# EAGLE library part 4VFX40FF672 (library xilinx_spartan3_virtex4_and_5)
Xilinx FPGA
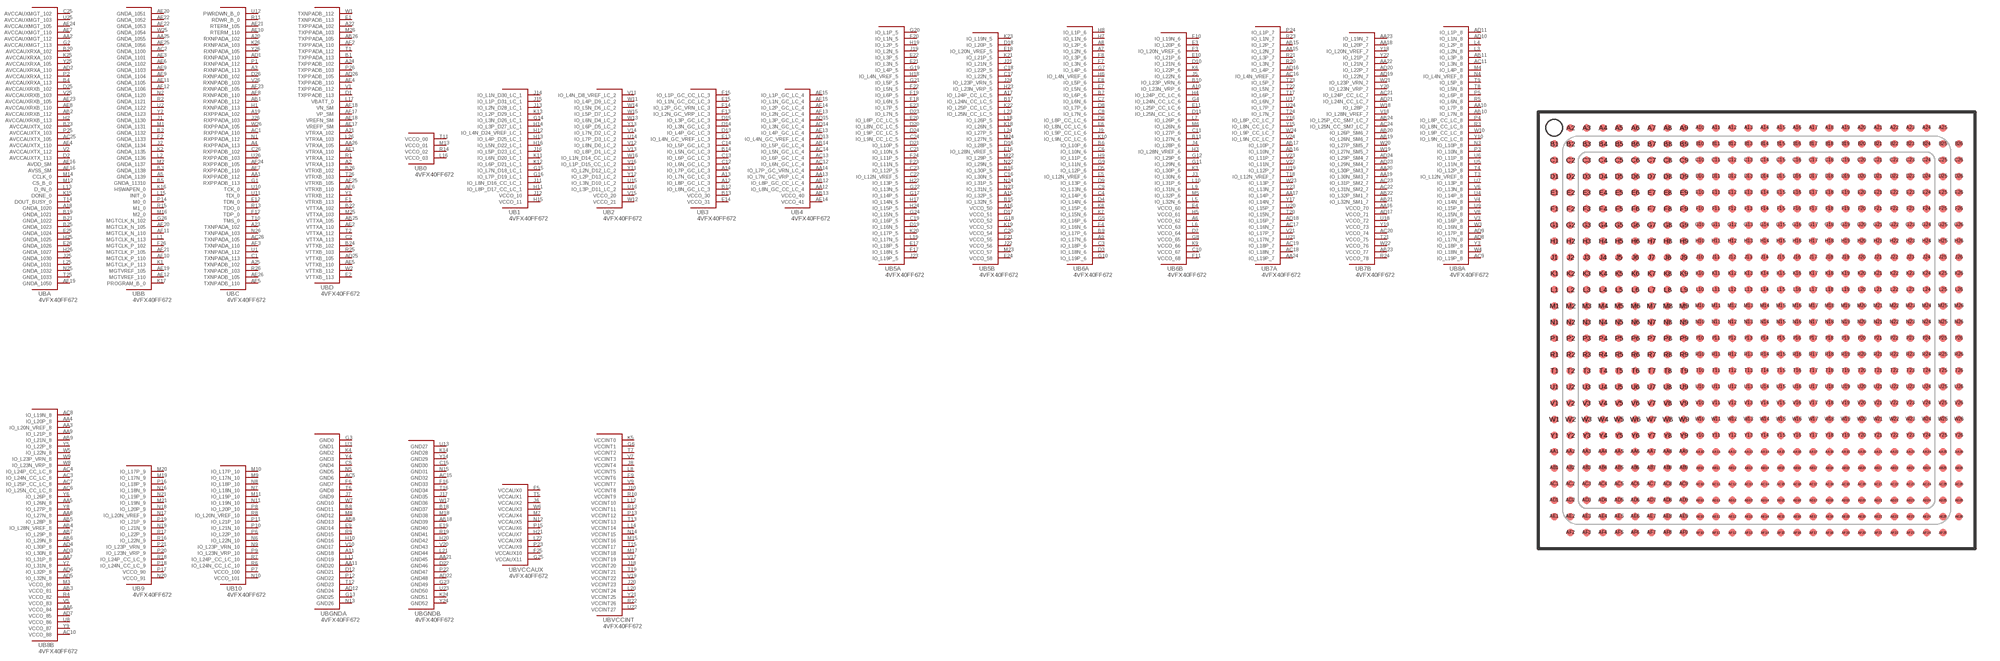
[diagram p64: symbol with the pads of FF672; footprint FF672]

Designator prefix U; gates BA=4VFX40FF672_A BB=4VFX40FF672_B BC=4VFX40FF672_C BD=4VFX40FF672_D B0=4VFX40FF672_0 B1=4VFX40FF672_1 B2=4VFX40FF672_2 B3=4VFX40FF672_3 B4=4VFX40FF672_4 B5A=4VFX40FF672_5A B5B=4VFX40FF672_5B B6A=4VFX40FF672_6A B6B=4VFX40FF672_6B B7A=4VFX40FF672_7A B7B=4VFX40FF672_7B B8A=4VFX40FF672_8A B8B=4VFX40FF672_8B B9=4VFX40FF672_9 B10=4VFX40FF672_10 BGNDA=4VFX40FF672_GNDA BGNDB=4VFX40FF672_GNDB BVCCAUX=4VFX40FF672_VCCAUX BVCCINT=4VFX40FF672_VCCINT

## 4VFX40FF672  [FF672]
A2  BD:VTRXA_113
A3  BC:RXNPADA_113
A4  BC:RXPPADA_113
A5  BB:GNDA_1139
A6  B6B:VCCO_62  pas
A7  B6A:IO_L2N_6
A8  B6A:IO_L2P_6
A9  B6A:IO_L17N_6
A10  B6B:IO_L23N_VRP_6
A11  BGNDA:GND18  pas
A12  B3:IO_L8P_GC_LC_3
A13  B3:IO_L7N_GC_LC_3
A14  B3:IO_L7P_GC_LC_3
A15  B5B:IO_L32P_5
A16  B5B:VCCO_50  pas
A17  B5B:IO_L24P_CC_LC_5
A18  BA:GNDA_1020
A19  BC:RXPPADA_102
A20  BC:RXNPADA_102
A21  BD:VTRXA_102
A22  BD:TXPPADA_102
A23  BC:TXNPADA_102
A24  BD:TXPPADB_102
A25  BC:TXNPADB_102
AA1  BC:RXPPADB_112
AA2  BA:AVCCAUXMGT_112
AA3  B8B:IO_L20N_VREF_8
AA4  B8B:IO_L20P_8
AA5  B8B:IO_L26N_8
AA6  B8B:VCCO_84  pas
AA7  B8B:IO_L31P_8
AA8  B8B:IO_L27N_8
AA9  B8B:IO_L21P_8
AA10  B8A:IO_L7P_8
AA11  BGNDA:GND20  pas
AA12  B4:IO_L8N_GC_CC_LC_4
AA13  B4:IO_L7N_GC_VRP_LC_4
AA14  B4:IO_L7P_GC_VRN_LC_4
AA15  B7A:IO_L2N_7
AA16  B7B:VCCO_70  pas
AA17  B7A:IO_L14P_7
AA18  B7B:IO_L20P_7
AA19  B7B:IO_L30N_SM3_7
AA20  B7B:IO_L30P_SM3_7
AA21  BGNDB:GND45  pas
AA22  B7B:IO_L21N_7
AA23  B7B:IO_L19N_7
AA24  B7A:IO_L19P_7
AA25  BB:GNDA_1055
AA26  BD:VTRXA_105
AB1  BC:RXNPADB_112
AB2  BA:AVCCAUXRXB_112
AB3  B8B:VCCO_81  pas
AB4  B8B:IO_L28N_VREF_8
AB5  B8B:IO_L28P_8
AB6  B8B:IO_L29N_8
AB7  B8B:IO_L29P_8
AB8  BGNDA:GND13  pas
AB9  B8B:IO_L21N_8
AB10  B8A:IO_L7N_8
AB11  B8A:IO_L3P_8
AB12  B4:IO_L8P_GC_CC_LC_4
AB13  B4:VCCO_40  pas
AB14  B4:IO_L5P_GC_LC_4
AB15  B7A:IO_L2P_7
AB16  B7A:IO_L10N_7
AB17  B7A:IO_L10P_7
AB18  BGNDB:GND39  pas
AB19  B7B:IO_L26N_SM6_7
AB20  B7B:IO_L26P_SM6_7
AB21  B7B:IO_L32N_SM1_7
AB22  B7B:IO_L32P_SM1_7
AB23  B7B:VCCO_77  pas
AB24  B7B:IO_L25P_CC_SM7_LC_7
AB25  BD:VTTXA_105
AB26  BD:TXPPADA_105
AC1  BC:RXPPADA_110
AC2  BB:GNDA_1100
AC3  B8B:IO_L24N_CC_LC_8
AC4  B8B:IO_L24P_CC_LC_8
AC5  BGNDA:GND6  pas
AC6  B8B:IO_L25N_CC_LC_8
AC7  B8B:IO_L25P_CC_LC_8
AC8  B8B:IO_L19N_8
AC9  B8A:IO_L19P_8
AC10  B8B:VCCO_88  pas
AC11  B8A:IO_L3N_8
AC12  B4:IO_L6N_GC_LC_4
AC13  B4:IO_L6P_GC_LC_4
AC14  B4:IO_L5N_GC_LC_4
AC15  BGNDB:GND32  pas
AC16  B7A:IO_L4N_VREF_7
AC17  B7A:IO_L16N_7
AC18  B7A:IO_L18N_7
AC19  B7A:IO_L18P_7
AC20  B7B:VCCO_74  pas
AC21  B7B:IO_L24P_CC_LC_7
AC22  B7B:IO_L31N_SM2_7
AC23  B7B:IO_L31P_SM2_7
AC24  B7B:IO_L25N_CC_SM7_LC_7
AC25  BA:AVCCAUXTX_105
AC26  BC:TXNPADA_105
AD1  BC:RXNPADA_110
AD2  BA:AVCCAUXRXA_110
AD3  B8B:IO_L30N_8
AD4  B8B:IO_L30P_8
AD5  B8B:IO_L32N_8
AD6  B8B:IO_L32P_8
AD7  B8B:VCCO_85  pas
AD8  B8A:IO_L17N_8
AD9  B8A:IO_L17P_8
AD10  B8A:IO_L1N_8
AD11  B8A:IO_L1P_8
AD12  BGNDA:GND24  pas
AD13  B4:IO_L4N_GC_VREF_LC_4
AD14  B4:IO_L3N_GC_LC_4
AD15  B4:IO_L3P_GC_LC_4
AD16  B7A:IO_L4P_7
AD17  B7B:VCCO_71  pas
AD18  B7A:IO_L16P_7
AD19  B7B:IO_L22N_7
AD20  B7B:IO_L22P_7
AD21  B7B:IO_L24N_CC_LC_7
AD22  BGNDB:GND48  pas
AD23  B7B:IO_L29N_SM4_7
AD24  B7B:IO_L29P_SM4_7
AD25  BD:VTTXB_105
AD26  BD:TXPPADB_105
AE1  BD:VTRXA_110
AE2  BD:VTTXA_110
AE3  BB:GNDA_1101
AE4  BA:AVCCAUXTX_110
AE5  BD:VTTXB_110
AE6  BB:GNDA_1102
AE7  BA:AVCCAUXMGT_110
AE8  BA:AVCCAUXRXB_110
AE9  BB:GNDA_1103
AE10  BC:RTERM_110
AE11  BB:GNDA_1105
AE12  BB:MGTVREF_110
AE13  B4:IO_L4P_GC_LC_4
AE14  B4:VCCO_41  pas
AE15  B4:IO_L1P_GC_LC_4
AE16  BA:AVDD_SM
AE17  BD:VREFP_SM
AE18  BD:VREFN_SM
AE19  BB:MGTVREF_105
AE20  BB:GNDA_1051
AE21  BC:RTERM_105
AE22  BB:GNDA_1052
AE23  BA:AVCCAUXRXB_105
AE24  BA:AVCCAUXMGT_105
AE25  BB:GNDA_1056
AE26  BC:TXNPADB_105
AF2  BD:TXPPADA_110
AF3  BC:TXNPADA_110
AF4  BD:TXPPADB_110
AF5  BC:TXNPADB_110
AF6  BD:VTRXB_110
AF7  BC:RXPPADB_110
AF8  BC:RXNPADB_110
AF9  BB:GNDA_1104
AF10  BB:MGTCLK_P_110
AF11  BB:MGTCLK_N_110
AF12  BB:GNDA_1106
AF13  B4:IO_L2N_GC_LC_4
AF14  B4:IO_L2P_GC_LC_4
AF15  B4:IO_L1N_GC_LC_4
AF16  BA:AVSS_SM
AF17  BD:VP_SM
AF18  BD:VN_SM
AF19  BA:GNDA_1050
AF20  BB:MGTCLK_N_105
AF21  BB:MGTCLK_P_105
AF22  BB:GNDA_1053
AF23  BC:RXNPADB_105
AF24  BC:RXPPADB_105
AF25  BD:VTRXB_105
B1  BD:TXPPADA_113
B2  BB:GNDA_1132
B3  BB:GNDA_1138
B4  BA:AVCCAUXRXA_113
B5  BB:GNDA_11310
B6  B6A:IO_L10P_6
B7  B6A:IO_L6P_6
B8  BGNDA:GND11  pas
B9  B6A:IO_L17P_6
B10  B6B:IO_L23P_VRN_6
B11  B6B:IO_L27N_6
B12  B3:IO_L8N_GC_LC_3
B13  B3:VCCO_30  pas
B14  B3:IO_L5N_GC_LC_3
B15  B5B:IO_L32N_5
B16  B5B:IO_L30P_5
B17  B5B:IO_L24N_CC_LC_5
B18  BGNDB:GND37  pas
B19  BA:GNDA_1021
B20  BA:AVCCAUXRXA_102
B21  BA:GNDA_1022
B22  BD:VTTXA_102
B23  BA:AVCCAUXTX_102
B24  BD:VTTXB_102
B25  BA:GNDA_1023
B26  BD:VTRXB_102
C1  BC:TXNPADA_113
C2  BD:VTTXA_113
C3  B6A:IO_L18P_6
C4  B6A:IO_L14P_6
C5  BGNDA:GND4  pas
C6  B6A:IO_L10N_6
C7  B6A:IO_L6N_6
C8  B6A:IO_L7N_6
C9  B6A:IO_L13N_6
C10  B6B:VCCO_67  pas
C11  B6B:IO_L27P_6
C12  B3:IO_L6N_GC_LC_3
C13  B3:IO_L6P_GC_LC_3
C14  B3:IO_L5P_GC_LC_3
C15  BGNDB:GND30  pas
C16  B5B:IO_L30N_5
C17  B5B:IO_L22N_5
C18  B5B:IO_L22P_5
C19  B5A:IO_L16P_5
C20  B5B:VCCO_54  pas
C21  B5A:IO_L10N_5
C22  B5A:IO_L12N_VREF_5
C23  B5A:IO_L12P_5
C24  B5A:IO_L9N_CC_LC_5
C25  BA:AVCCAUXMGT_102
C26  BC:RXPPADB_102
D1  BD:TXPPADB_113
D2  BA:AVCCAUXTX_113
D3  B6A:IO_L18N_6
D4  B6A:IO_L14N_6
D5  B6A:IO_L12P_6
D6  B6A:IO_L8P_CC_LC_6
D7  B6B:VCCO_64  pas
D8  B6A:IO_L7P_6
D9  B6A:IO_L13P_6
D10  B6B:IO_L21N_6
D11  B6B:IO_L25N_CC_LC_6
D12  BGNDA:GND21  pas
D13  B3:IO_L4P_GC_LC_3
D14  B3:IO_L3N_GC_LC_3
D15  B3:IO_L3P_GC_LC_3
D16  B5B:IO_L28P_5
D17  B5B:VCCO_51  pas
D18  B5B:IO_L20P_5
D19  B5A:IO_L16N_5
D20  B5A:IO_L8N_CC_LC_5
D21  B5A:IO_L10P_5
D22  BGNDB:GND46  pas
D23  B5A:IO_L7N_5
D24  B5A:IO_L9P_CC_LC_5
D25  BA:AVCCAUXRXB_102
D26  BC:RXNPADB_102
E1  BD:TXNPADB_113
E2  BD:VTTXB_113
E3  B6B:IO_L20P_6
E4  B6B:VCCO_60  pas
E5  B6A:IO_L12N_VREF_6
E6  B6A:IO_L8N_CC_LC_6
E7  B6A:IO_L5N_6
E8  B6A:IO_L5P_6
E9  BGNDA:GND14  pas
E10  B6B:IO_L21P_6
E11  B6B:IO_L25P_CC_LC_6
E12  BC:TDN_0
E13  B3:IO_L4N_GC_VREF_LC_3
E14  B3:VCCO_31  pas
E15  B3:IO_L1N_GC_CC_LC_3
E16  B5B:IO_L28N_VREF_5
E17  B5A:IO_L18P_5
E18  B5B:IO_L20N_VREF_5
E19  BGNDB:GND40  pas
E20  B5A:IO_L8P_CC_LC_5
E21  B5A:IO_L3N_5
E22  B5A:IO_L3P_5
E23  B5A:IO_L7P_5
E24  B5B:VCCO_58  pas
E25  BA:GNDA_1024
E26  BA:GNDA_1026
F1  BD:VTRXB_113
F2  BB:GNDA_1133
F3  B6B:IO_L20N_VREF_6
F4  B6A:IO_L16N_6
F5  BVCCAUX:VCCAUX0  pas
F6  BGNDA:GND7  pas
F7  B6A:IO_L3N_6
F8  B6A:IO_L3P_6
F9  BVCCINT:VCCINT6  pas
F10  B6B:IO_L19N_6
F11  B6B:VCCO_68  pas
F12  BC:TDP_0
F13  B3:IO_L2N_GC_VRP_LC_3
F14  B3:IO_L2P_GC_VRN_LC_3
F15  B3:IO_L1P_GC_CC_LC_3
F16  BGNDB:GND33  pas
F17  B5A:IO_L18N_5
F18  B5A:IO_L6N_5
F19  B5A:IO_L6P_5
F20  B5A:IO_L1N_5
F21  B5B:VCCO_55  pas
F22  B5A:IO_L5N_5
F23  B5A:IO_L11N_5
F24  B5A:IO_L11P_5
F25  BVCCAUX:VCCAUX10  pas
F26  BB:MGTCLK_P_102
G1  BC:RXPPADB_113
G2  BA:AVCCAUXMGT_113
G3  BGNDA:GND0  pas
G4  B6B:IO_L24N_CC_LC_6
G5  B6A:IO_L16P_6
G6  BVCCINT:VCCINT1  pas
G7  B6A:IO_L4P_6
G8  B6B:VCCO_65  pas
G9  B6A:IO_L11N_6
G10  B6A:IO_L19P_6
G11  B6B:IO_L29N_6
G12  B6B:IO_L29P_6
G13  BGNDA:GND25  pas
G14  B1:IO_L3N_D26_LC_1
G15  B1:IO_L7N_D18_LC_1
G16  B1:IO_L7P_D19_LC_1
G17  B5A:IO_L14P_5
G18  B5B:VCCO_52  pas
G19  B5A:IO_L4P_5
G20  B5A:IO_L1P_5
G21  B5A:IO_L5P_5
G22  B5A:IO_L13N_5
G23  BGNDB:GND49  pas
G24  B5A:IO_L15N_5
G25  BVCCAUX:VCCAUX11  pas
G26  BB:MGTCLK_N_102
H1  BC:RXNPADB_113
H2  BA:AVCCAUXRXB_113
H3  B6B:IO_L28N_VREF_6
H4  B6B:IO_L24P_CC_LC_6
H5  B6B:VCCO_61  pas
H6  B6A:IO_L4N_VREF_6
H7  B6A:IO_L1N_6
H8  B6A:IO_L1P_6
H9  B6A:IO_L11P_6
H10  BGNDA:GND16  pas
H11  B1:IO_L8P_D17_CC_LC_1
H12  B1:IO_L4N_D24_VREF_LC_1
H13  B1:IO_L4P_D25_LC_1
H14  B1:IO_L3P_D27_LC_1
H15  B1:VCCO_11  pas
H16  B1:IO_L5N_D22_LC_1
H17  B5A:IO_L14N_5
H18  B5A:IO_L4N_VREF_5
H19  B5A:IO_L2P_5
H20  BGNDB:GND42  pas
H21  BVCCAUX:VCCAUX7  pas
H22  B5A:IO_L13P_5
H23  B5B:IO_L23N_VRP_5
H24  B5A:IO_L15P_5
H25  BA:GNDA_1025
H26  BA:GNDA_1027
J1  BB:GNDA_1130
J2  BB:GNDA_1134
J3  B6B:IO_L30N_6
J4  B6B:IO_L28P_6
J5  B6B:IO_L22N_6
J6  BVCCAUX:VCCAUX2  pas
J7  BGNDA:GND9  pas
J8  BVCCINT:VCCINT4  pas
J9  B6A:IO_L9P_CC_LC_6
J10  BVCCINT:VCCINT8  pas
J11  B1:IO_L8N_D16_CC_LC_1
J12  B1:VCCO_10  pas
J13  B1:IO_L2N_D28_LC_1
J14  B1:IO_L1N_D30_LC_1
J15  B1:IO_L1P_D31_LC_1
J16  B1:IO_L5P_D23_LC_1
J17  BGNDB:GND35  pas
J18  BVCCINT:VCCINT20  pas
J19  B5A:IO_L2N_5
J20  BVCCINT:VCCINT23  pas
J21  B5B:IO_L21N_5
J22  B5B:VCCO_56  pas
J23  B5A:IO_L19P_5
J24  B5B:IO_L23P_VRN_5
J25  BA:GNDA_1030
J26  BC:RXPPADA_103
K1  BB:MGTCLK_P_113
K2  BB:GNDA_1135
K3  B6B:IO_L30P_6
K4  BGNDA:GND2  pas
K5  BVCCINT:VCCINT0  pas
K6  B6B:IO_L22P_6
K7  B6A:IO_L15N_6
K8  B6A:IO_L15P_6
K9  B6B:VCCO_66  pas
K10  B6A:IO_L9N_CC_LC_6
K11  B1:IO_L6N_D20_LC_1
K12  B1:IO_L6P_D21_LC_1
K13  B1:IO_L2P_D29_LC_1
K14  BGNDB:GND28  pas
K15  BA:DONE_0
K16  BB:HSWAPEN_0
K17  BB:PROGRAM_B_0
K18  B5B:IO_L26N_5
K19  B5B:VCCO_53  pas
K20  B5A:IO_L17P_5
K21  B5B:IO_L21P_5
K22  B5B:IO_L25P_CC_LC_5
K23  B5B:IO_L19N_5
K24  BGNDB:GND51  pas
K25  BA:AVCCAUXRXA_103
K26  BC:RXNPADA_103
L1  BB:MGTCLK_N_113
L2  BB:GNDA_1136
L3  B8A:IO_L2N_8
L4  B8A:IO_L2P_8
L5  B6B:IO_L32N_6
L6  B6B:VCCO_63  pas
L7  B6B:IO_L26P_6
L8  BVCCINT:VCCINT5  pas
L9  B6B:IO_L31N_6
L10  B6B:IO_L31P_6
L11  BGNDA:GND19  pas
L12  BVCCINT:VCCINT10  pas
L13  BA:D_IN_0
L14  BVCCINT:VCCINT14  pas
L15  BB:INIT_0
L16  B0:VCCO_03  pas
L17  BD:VBATT_0
L18  B5B:IO_L26P_5
L19  B5A:IO_L17N_5
L20  BVCCINT:VCCINT24  pas
L21  BGNDB:GND44  pas
L22  BVCCAUX:VCCAUX8  pas
L23  B5B:IO_L25N_CC_LC_5
L24  B5B:IO_L27P_5
L25  BA:GNDA_1031
L26  BD:VTRXA_103
M1  BB:GNDA_1131
M2  BB:GNDA_1137
M3  B8B:VCCO_80  pas
M4  B8A:IO_L4P_8
M5  B6B:IO_L32P_6
M6  B6B:IO_L26N_6
M7  BVCCAUX:VCCAUX4  pas
M8  BGNDA:GND12  pas
M9  B10:IO_L17N_10
M10  B10:IO_L17P_10
M11  B10:IO_L19P_10
M12  BA:CS_B_0
M13  B0:VCCO_01  pas
M14  BA:CCLK_0
M15  BVCCINT:VCCINT16  pas
M16  BB:M2_0
M17  BVCCINT:VCCINT18  pas
M18  BGNDB:GND38  pas
M19  B9:IO_L17N_9
M20  B9:IO_L17P_9
M21  B9:IO_L19N_9
M22  B5B:IO_L29P_5
M23  B5B:VCCO_57  pas
M24  B5B:IO_L27N_5
M25  BD:VTTXA_103
M26  BD:TXPPADA_103
N1  BC:RXPPADA_112
N2  BB:GNDA_1120
N3  B8A:IO_L10P_8
N4  B8A:IO_L4N_VREF_8
N5  BGNDA:GND5  pas
N6  B10:IO_L22N_10
N7  B10:IO_L18N_10
N8  B10:IO_L18P_10
N9  B10:IO_L23P_VRN_10
N10  B10:VCCO_101  pas
N11  B10:IO_L19N_10
N12  BVCCAUX:VCCAUX5  pas
N13  BGNDA:GND26  pas
N14  BVCCINT:VCCINT15  pas
N15  BGNDB:GND31  pas
N16  B9:IO_L18N_9
N17  B9:IO_L20N_VREF_9
N18  B9:IO_L20P_9
N19  B9:IO_L21N_9
N20  B9:VCCO_91  pas
N21  B9:IO_L19P_9
N22  B5B:IO_L29N_5
N23  B5B:IO_L31N_5
N24  B5B:IO_L31P_5
N25  BA:GNDA_1032
N26  BC:TXNPADA_103
P1  BC:RXNPADA_112
P2  BA:AVCCAUXRXA_112
P3  B8A:IO_L10N_8
P4  B8A:IO_L8P_CC_LC_8
P5  B8A:IO_L6P_8
P6  B10:IO_L22P_10
P7  B10:VCCO_100  pas
P8  B10:IO_L20P_10
P9  B10:IO_L23N_VRP_10
P10  B10:IO_L21N_10
P11  B10:IO_L21P_10
P12  BGNDA:GND22  pas
P13  BVCCINT:VCCINT12  pas
P14  BB:M0_0
P15  BVCCAUX:VCCAUX6  pas
P16  B9:IO_L18P_9
P17  B9:VCCO_90  pas
P18  B9:IO_L24N_CC_LC_9
P19  B9:IO_L21P_9
P20  B9:IO_L23N_VRP_9
P21  B9:IO_L23P_VRN_9
P22  BGNDB:GND47  pas
P23  BVCCAUX:VCCAUX9  pas
P24  B7A:IO_L1P_7
P25  BA:AVCCAUXTX_103
P26  BD:TXPPADB_103
R1  BD:VTRXA_112
R2  BB:GNDA_1121
R3  B8A:IO_L8N_CC_LC_8
R4  B8B:VCCO_82  pas
R5  B8A:IO_L6N_8
R6  B10:IO_L24N_CC_LC_10
R7  B10:IO_L24P_CC_LC_10
R8  B10:IO_L20N_VREF_10
R9  BGNDA:GND15  pas
R10  BVCCINT:VCCINT9  pas
R11  BC:RDWR_B_0
R12  BVCCINT:VCCINT11  pas
R13  BC:TDO_0
R14  B0:VCCO_02  pas
R15  BB:M1_0
R16  B9:IO_L22N_9
R17  B9:IO_L22P_9
R18  B9:IO_L24P_CC_LC_9
R19  BGNDB:GND41  pas
R20  B7A:IO_L3N_7
R21  B7A:IO_L3P_7
R22  BVCCINT:VCCINT26  pas
R23  B7A:IO_L1N_7
R24  B7B:VCCO_78  pas
R25  BD:VTTXB_103
R26  BC:TXNPADB_103
T1  BD:TXPPADA_112
T2  BD:VTTXA_112
T3  B8A:IO_L12N_VREF_8
T4  B8A:IO_L12P_8
T5  BVCCAUX:VCCAUX1  pas
T6  BGNDA:GND8  pas
T7  BVCCINT:VCCINT2  pas
T8  B8A:IO_L5N_8
T9  B8A:IO_L5P_8
T10  BC:TMS_0
T11  B0:VCCO_00  pas
T12  BGNDA:GND23  pas
T13  BVCCINT:VCCINT13  pas
T14  BA:DOUT_BUSY_0
T15  BVCCINT:VCCINT17  pas
T16  BGNDB:GND34  pas
T17  B7A:IO_L6P_7
T18  B7A:IO_L12N_VREF_7
T19  BVCCINT:VCCINT21  pas
T20  B7A:IO_L15N_7
T21  B7B:VCCO_75  pas
T22  B7A:IO_L5N_7
T23  B7A:IO_L5P_7
T24  B7A:IO_L7N_7
T25  BA:GNDA_1033
T26  BD:VTRXB_103
U1  BC:TXNPADA_112
U2  BB:GNDA_1122
U3  BGNDA:GND1  pas
U4  B8A:IO_L14P_8
U5  B8A:IO_L11N_8
U6  B8A:IO_L11P_8
U7  B8A:IO_L13P_8
U8  B8B:VCCO_86  pas
U9  B8A:IO_L15P_8
U10  BC:TCK_0
U11  BC:TDI_0
U12  BC:PWRDWN_B_0
U13  BGNDB:GND27  pas
U14  B2:IO_L7P_D3_LC_2
U15  B2:IO_L3N_D10_LC_2
U16  B2:IO_L3P_D11_LC_2
U17  B7A:IO_L6N_7
U18  B7B:VCCO_72  pas
U19  B7A:IO_L12P_7
U20  B7A:IO_L15P_7
U21  B7A:IO_L17N_7
U22  BVCCINT:VCCINT27  pas
U23  BGNDB:GND50  pas
U24  B7A:IO_L7P_7
U25  BA:AVCCAUXMGT_103
U26  BC:RXPPADB_103
V1  BD:TXPPADB_112
V2  BA:AVCCAUXTX_112
V3  B8A:IO_L16P_8
V4  B8A:IO_L14N_8
V5  B8B:VCCO_83  pas
V6  B8A:IO_L13N_8
V7  BVCCINT:VCCINT3  pas
V8  B8A:IO_L15N_8
V9  BVCCINT:VCCINT7  pas
V10  BGNDA:GND17  pas
V11  B2:IO_L4N_D8_VREF_LC_2
V12  B2:IO_L8N_D0_LC_2
V13  B2:IO_L8P_D1_LC_2
V14  B2:IO_L7N_D2_LC_2
V15  B2:VCCO_20  pas
V16  B2:IO_L1P_D15_CC_LC_2
V17  BVCCINT:VCCINT19  pas
V18  B7B:IO_L28N_VREF_7
V19  BVCCINT:VCCINT22  pas
V20  BGNDB:GND43  pas
V21  B7A:IO_L17P_7
V22  B7A:IO_L11N_7
V23  B7A:IO_L11P_7
V24  B7A:IO_L9N_CC_LC_7
V25  BA:AVCCAUXRXB_103
V26  BC:RXNPADB_103
W1  BD:TXNPADB_112
W2  BD:VTTXB_112
W3  B8A:IO_L16N_8
W4  B8A:IO_L18N_8
W5  B8B:IO_L22N_8
W6  BVCCAUX:VCCAUX3  pas
W7  BGNDA:GND10  pas
W8  B8B:IO_L23N_VRP_8
W9  B8B:IO_L23P_VRN_8
W10  B8A:IO_L9P_CC_LC_8
W11  B2:IO_L4P_D9_LC_2
W12  B2:VCCO_21  pas
W13  B2:IO_L6N_D4_LC_2
W14  B2:IO_L5N_D6_LC_2
W15  B2:IO_L5P_D7_LC_2
W16  B2:IO_L1N_D14_CC_LC_2
W17  BGNDB:GND36  pas
W18  B7B:IO_L28P_7
W19  B7B:IO_L27N_SM5_7
W20  B7B:IO_L27P_SM5_7
W21  B7B:IO_L23P_VRN_7
W22  B7B:VCCO_76  pas
W23  B7A:IO_L13P_7
W24  B7A:IO_L9P_CC_LC_7
W25  BB:GNDA_1054
W26  BC:RXPPADA_105
Y1  BD:VTRXB_112
Y2  BB:GNDA_1123
Y3  B8A:IO_L18P_8
Y4  BGNDA:GND3  pas
Y5  B8B:IO_L22P_8
Y6  B8B:IO_L26P_8
Y7  B8B:IO_L31N_8
Y8  B8B:IO_L27P_8
Y9  B8B:VCCO_87  pas
Y10  B8A:IO_L9N_CC_LC_8
Y11  B2:IO_L2N_D12_LC_2
Y12  B2:IO_L2P_D13_LC_2
Y13  B2:IO_L6P_D5_LC_2
Y14  BGNDB:GND29  pas
Y15  B7A:IO_L8N_CC_LC_7
Y16  B7A:IO_L8P_CC_LC_7
Y17  B7A:IO_L14N_7
Y18  B7B:IO_L20N_VREF_7
Y19  B7B:VCCO_73  pas
Y20  B7B:IO_L23N_VRP_7
Y21  BVCCINT:VCCINT25  pas
Y22  B7B:IO_L21P_7
Y23  B7A:IO_L13N_7
Y24  BGNDB:GND52  pas
Y25  BA:AVCCAUXRXA_105
Y26  BC:RXNPADA_105

## Footprint FF672 (pad centres in mm)
smd 0.45 x 0.45: A2 -11.5,12.5; A3 -10.5,12.5; A4 -9.5,12.5; A5 -8.5,12.5; A6 -7.5,12.5; A7 -6.5,12.5; A8 -5.5,12.5; A9 -4.5,12.5; A10 -3.5,12.5; A11 -2.5,12.5; A12 -1.5,12.5; A13 -0.5,12.5; A14 0.5,12.5; A15 1.5,12.5; A16 2.5,12.5; A17 3.5,12.5; A18 4.5,12.5; A19 5.5,12.5; A20 6.5,12.5; A21 7.5,12.5; A22 8.5,12.5; A23 9.5,12.5; A24 10.5,12.5; A25 11.5,12.5; AA1 -12.5,-7.5; AA2 -11.5,-7.5; AA3 -10.5,-7.5; AA4 -9.5,-7.5; AA5 -8.5,-7.5; AA6 -7.5,-7.5; AA7 -6.5,-7.5; AA8 -5.5,-7.5; AA9 -4.5,-7.5; AA10 -3.5,-7.5; AA11 -2.5,-7.5; AA12 -1.5,-7.5; AA13 -0.5,-7.5; AA14 0.5,-7.5; AA15 1.5,-7.5; AA16 2.5,-7.5; AA17 3.5,-7.5; AA18 4.5,-7.5; AA19 5.5,-7.5; AA20 6.5,-7.5; AA21 7.5,-7.5; AA22 8.5,-7.5; AA23 9.5,-7.5; AA24 10.5,-7.5; AA25 11.5,-7.5; AA26 12.5,-7.5; AB1 -12.5,-8.5; AB2 -11.5,-8.5; AB3 -10.5,-8.5; AB4 -9.5,-8.5; AB5 -8.5,-8.5; AB6 -7.5,-8.5; AB7 -6.5,-8.5; AB8 -5.5,-8.5; AB9 -4.5,-8.5; AB10 -3.5,-8.5; AB11 -2.5,-8.5; AB12 -1.5,-8.5; AB13 -0.5,-8.5; AB14 0.5,-8.5; AB15 1.5,-8.5; AB16 2.5,-8.5; AB17 3.5,-8.5; AB18 4.5,-8.5; AB19 5.5,-8.5; AB20 6.5,-8.5; AB21 7.5,-8.5; AB22 8.5,-8.5; AB23 9.5,-8.5; AB24 10.5,-8.5; AB25 11.5,-8.5; AB26 12.5,-8.5; AC1 -12.5,-9.5; AC2 -11.5,-9.5; AC3 -10.5,-9.5; AC4 -9.5,-9.5; AC5 -8.5,-9.5; AC6 -7.5,-9.5; AC7 -6.5,-9.5; AC8 -5.5,-9.5; AC9 -4.5,-9.5; AC10 -3.5,-9.5; AC11 -2.5,-9.5; AC12 -1.5,-9.5; AC13 -0.5,-9.5; AC14 0.5,-9.5; AC15 1.5,-9.5; AC16 2.5,-9.5; AC17 3.5,-9.5; AC18 4.5,-9.5; AC19 5.5,-9.5; AC20 6.5,-9.5; AC21 7.5,-9.5; AC22 8.5,-9.5; AC23 9.5,-9.5; AC24 10.5,-9.5; AC25 11.5,-9.5; AC26 12.5,-9.5; AD1 -12.5,-10.5; AD2 -11.5,-10.5; AD3 -10.5,-10.5; AD4 -9.5,-10.5; AD5 -8.5,-10.5; AD6 -7.5,-10.5; AD7 -6.5,-10.5; AD8 -5.5,-10.5; AD9 -4.5,-10.5; AD10 -3.5,-10.5; AD11 -2.5,-10.5; AD12 -1.5,-10.5; AD13 -0.5,-10.5; AD14 0.5,-10.5; AD15 1.5,-10.5; AD16 2.5,-10.5; AD17 3.5,-10.5; AD18 4.5,-10.5; AD19 5.5,-10.5; AD20 6.5,-10.5; AD21 7.5,-10.5; AD22 8.5,-10.5; AD23 9.5,-10.5; AD24 10.5,-10.5; AD25 11.5,-10.5; AD26 12.5,-10.5; AE1 -12.5,-11.5; AE2 -11.5,-11.5; AE3 -10.5,-11.5; AE4 -9.5,-11.5; AE5 -8.5,-11.5; AE6 -7.5,-11.5; AE7 -6.5,-11.5; AE8 -5.5,-11.5; AE9 -4.5,-11.5; AE10 -3.5,-11.5; AE11 -2.5,-11.5; AE12 -1.5,-11.5; AE13 -0.5,-11.5; AE14 0.5,-11.5; AE15 1.5,-11.5; AE16 2.5,-11.5; AE17 3.5,-11.5; AE18 4.5,-11.5; AE19 5.5,-11.5; AE20 6.5,-11.5; AE21 7.5,-11.5; AE22 8.5,-11.5; AE23 9.5,-11.5; AE24 10.5,-11.5; AE25 11.5,-11.5; AE26 12.5,-11.5; AF2 -11.5,-12.5; AF3 -10.5,-12.5; AF4 -9.5,-12.5; AF5 -8.5,-12.5; AF6 -7.5,-12.5; AF7 -6.5,-12.5; AF8 -5.5,-12.5; AF9 -4.5,-12.5; AF10 -3.5,-12.5; AF11 -2.5,-12.5; AF12 -1.5,-12.5; AF13 -0.5,-12.5; AF14 0.5,-12.5; AF15 1.5,-12.5; AF16 2.5,-12.5; AF17 3.5,-12.5; AF18 4.5,-12.5; AF19 5.5,-12.5; AF20 6.5,-12.5; AF21 7.5,-12.5; AF22 8.5,-12.5; AF23 9.5,-12.5; AF24 10.5,-12.5; AF25 11.5,-12.5; B1 -12.5,11.5; B2 -11.5,11.5; B3 -10.5,11.5; B4 -9.5,11.5; B5 -8.5,11.5; B6 -7.5,11.5; B7 -6.5,11.5; B8 -5.5,11.5; B9 -4.5,11.5; B10 -3.5,11.5; B11 -2.5,11.5; B12 -1.5,11.5; B13 -0.5,11.5; B14 0.5,11.5; B15 1.5,11.5; B16 2.5,11.5; B17 3.5,11.5; B18 4.5,11.5; B19 5.5,11.5; B20 6.5,11.5; B21 7.5,11.5; B22 8.5,11.5; B23 9.5,11.5; B24 10.5,11.5; B25 11.5,11.5; B26 12.5,11.5; C1 -12.5,10.5; C2 -11.5,10.5; C3 -10.5,10.5; C4 -9.5,10.5; C5 -8.5,10.5; C6 -7.5,10.5; C7 -6.5,10.5; C8 -5.5,10.5; C9 -4.5,10.5; C10 -3.5,10.5; C11 -2.5,10.5; C12 -1.5,10.5; C13 -0.5,10.5; C14 0.5,10.5; C15 1.5,10.5; C16 2.5,10.5; C17 3.5,10.5; C18 4.5,10.5; C19 5.5,10.5; C20 6.5,10.5; C21 7.5,10.5; C22 8.5,10.5; C23 9.5,10.5; C24 10.5,10.5; C25 11.5,10.5; C26 12.5,10.5; D1 -12.5,9.5; D2 -11.5,9.5; D3 -10.5,9.5; D4 -9.5,9.5; D5 -8.5,9.5; D6 -7.5,9.5; D7 -6.5,9.5; D8 -5.5,9.5; D9 -4.5,9.5; D10 -3.5,9.5; D11 -2.5,9.5; D12 -1.5,9.5; D13 -0.5,9.5; D14 0.5,9.5; D15 1.5,9.5; D16 2.5,9.5; D17 3.5,9.5; D18 4.5,9.5; D19 5.5,9.5; D20 6.5,9.5; D21 7.5,9.5; D22 8.5,9.5; D23 9.5,9.5; D24 10.5,9.5; D25 11.5,9.5; D26 12.5,9.5; E1 -12.5,8.5; E2 -11.5,8.5; E3 -10.5,8.5; E4 -9.5,8.5; E5 -8.5,8.5; E6 -7.5,8.5; E7 -6.5,8.5; E8 -5.5,8.5; E9 -4.5,8.5; E10 -3.5,8.5; E11 -2.5,8.5; E12 -1.5,8.5; E13 -0.5,8.5; E14 0.5,8.5; E15 1.5,8.5; E16 2.5,8.5; E17 3.5,8.5; E18 4.5,8.5; E19 5.5,8.5; E20 6.5,8.5; E21 7.5,8.5; E22 8.5,8.5; E23 9.5,8.5; E24 10.5,8.5; E25 11.5,8.5; E26 12.5,8.5; F1 -12.5,7.5; F2 -11.5,7.5; F3 -10.5,7.5; F4 -9.5,7.5; F5 -8.5,7.5; F6 -7.5,7.5; F7 -6.5,7.5; F8 -5.5,7.5; F9 -4.5,7.5; F10 -3.5,7.5; F11 -2.5,7.5; F12 -1.5,7.5; F13 -0.5,7.5; F14 0.5,7.5; F15 1.5,7.5; F16 2.5,7.5; F17 3.5,7.5; F18 4.5,7.5; F19 5.5,7.5; F20 6.5,7.5; F21 7.5,7.5; F22 8.5,7.5; F23 9.5,7.5; F24 10.5,7.5; F25 11.5,7.5; F26 12.5,7.5; G1 -12.5,6.5; G2 -11.5,6.5; G3 -10.5,6.5; G4 -9.5,6.5; G5 -8.5,6.5; G6 -7.5,6.5; G7 -6.5,6.5; G8 -5.5,6.5; G9 -4.5,6.5; G10 -3.5,6.5; G11 -2.5,6.5; G12 -1.5,6.5; G13 -0.5,6.5; G14 0.5,6.5; G15 1.5,6.5; G16 2.5,6.5; G17 3.5,6.5; G18 4.5,6.5; G19 5.5,6.5; G20 6.5,6.5; G21 7.5,6.5; G22 8.5,6.5; G23 9.5,6.5; G24 10.5,6.5; G25 11.5,6.5; G26 12.5,6.5; H1 -12.5,5.5; H2 -11.5,5.5; H3 -10.5,5.5; H4 -9.5,5.5; H5 -8.5,5.5; H6 -7.5,5.5; H7 -6.5,5.5; H8 -5.5,5.5; H9 -4.5,5.5; H10 -3.5,5.5; H11 -2.5,5.5; H12 -1.5,5.5; H13 -0.5,5.5; H14 0.5,5.5; H15 1.5,5.5; H16 2.5,5.5; H17 3.5,5.5; H18 4.5,5.5; H19 5.5,5.5; H20 6.5,5.5; H21 7.5,5.5; H22 8.5,5.5; H23 9.5,5.5; H24 10.5,5.5; H25 11.5,5.5; H26 12.5,5.5; J1 -12.5,4.5; J2 -11.5,4.5; J3 -10.5,4.5; J4 -9.5,4.5; J5 -8.5,4.5; J6 -7.5,4.5; J7 -6.5,4.5; J8 -5.5,4.5; J9 -4.5,4.5; J10 -3.5,4.5; J11 -2.5,4.5; J12 -1.5,4.5; J13 -0.5,4.5; J14 0.5,4.5; J15 1.5,4.5; J16 2.5,4.5; J17 3.5,4.5; J18 4.5,4.5; J19 5.5,4.5; J20 6.5,4.5; J21 7.5,4.5; J22 8.5,4.5; J23 9.5,4.5; J24 10.5,4.5; J25 11.5,4.5; J26 12.5,4.5; K1 -12.5,3.5; K2 -11.5,3.5; K3 -10.5,3.5; K4 -9.5,3.5; K5 -8.5,3.5; K6 -7.5,3.5; K7 -6.5,3.5; K8 -5.5,3.5; K9 -4.5,3.5; K10 -3.5,3.5; K11 -2.5,3.5; K12 -1.5,3.5; K13 -0.5,3.5; K14 0.5,3.5; K15 1.5,3.5; K16 2.5,3.5; K17 3.5,3.5; K18 4.5,3.5; K19 5.5,3.5; K20 6.5,3.5; K21 7.5,3.5; K22 8.5,3.5; K23 9.5,3.5; K24 10.5,3.5; K25 11.5,3.5; K26 12.5,3.5; L1 -12.5,2.5; L2 -11.5,2.5; L3 -10.5,2.5; L4 -9.5,2.5; L5 -8.5,2.5; L6 -7.5,2.5; L7 -6.5,2.5; L8 -5.5,2.5; L9 -4.5,2.5; L10 -3.5,2.5; L11 -2.5,2.5; L12 -1.5,2.5; L13 -0.5,2.5; L14 0.5,2.5; L15 1.5,2.5; L16 2.5,2.5; L17 3.5,2.5; L18 4.5,2.5; L19 5.5,2.5; L20 6.5,2.5; L21 7.5,2.5; L22 8.5,2.5; L23 9.5,2.5; L24 10.5,2.5; L25 11.5,2.5; L26 12.5,2.5; M1 -12.5,1.5; M2 -11.5,1.5; M3 -10.5,1.5; M4 -9.5,1.5; M5 -8.5,1.5; M6 -7.5,1.5; M7 -6.5,1.5; M8 -5.5,1.5; M9 -4.5,1.5; M10 -3.5,1.5; M11 -2.5,1.5; M12 -1.5,1.5; M13 -0.5,1.5; M14 0.5,1.5; M15 1.5,1.5; M16 2.5,1.5; M17 3.5,1.5; M18 4.5,1.5; M19 5.5,1.5; M20 6.5,1.5; M21 7.5,1.5; M22 8.5,1.5; M23 9.5,1.5; M24 10.5,1.5; M25 11.5,1.5; M26 12.5,1.5; N1 -12.5,0.5; N2 -11.5,0.5; N3 -10.5,0.5; N4 -9.5,0.5; N5 -8.5,0.5; N6 -7.5,0.5; N7 -6.5,0.5; N8 -5.5,0.5; N9 -4.5,0.5; N10 -3.5,0.5; N11 -2.5,0.5; N12 -1.5,0.5; N13 -0.5,0.5; N14 0.5,0.5; N15 1.5,0.5; N16 2.5,0.5; N17 3.5,0.5; N18 4.5,0.5; N19 5.5,0.5; N20 6.5,0.5; N21 7.5,0.5; N22 8.5,0.5; N23 9.5,0.5; N24 10.5,0.5; N25 11.5,0.5; N26 12.5,0.5; P1 -12.5,-0.5; P2 -11.5,-0.5; P3 -10.5,-0.5; P4 -9.5,-0.5; P5 -8.5,-0.5; P6 -7.5,-0.5; P7 -6.5,-0.5; P8 -5.5,-0.5; P9 -4.5,-0.5; P10 -3.5,-0.5; P11 -2.5,-0.5; P12 -1.5,-0.5; P13 -0.5,-0.5; P14 0.5,-0.5; P15 1.5,-0.5; P16 2.5,-0.5; P17 3.5,-0.5; P18 4.5,-0.5; P19 5.5,-0.5; P20 6.5,-0.5; P21 7.5,-0.5; P22 8.5,-0.5; P23 9.5,-0.5; P24 10.5,-0.5; P25 11.5,-0.5; P26 12.5,-0.5; R1 -12.5,-1.5; R2 -11.5,-1.5; R3 -10.5,-1.5; R4 -9.5,-1.5; R5 -8.5,-1.5; R6 -7.5,-1.5; R7 -6.5,-1.5; R8 -5.5,-1.5; R9 -4.5,-1.5; R10 -3.5,-1.5; R11 -2.5,-1.5; R12 -1.5,-1.5; R13 -0.5,-1.5; R14 0.5,-1.5; R15 1.5,-1.5; R16 2.5,-1.5; R17 3.5,-1.5; R18 4.5,-1.5; R19 5.5,-1.5; R20 6.5,-1.5; R21 7.5,-1.5; R22 8.5,-1.5; R23 9.5,-1.5; R24 10.5,-1.5; R25 11.5,-1.5; R26 12.5,-1.5; T1 -12.5,-2.5; T2 -11.5,-2.5; T3 -10.5,-2.5; T4 -9.5,-2.5; T5 -8.5,-2.5; T6 -7.5,-2.5; T7 -6.5,-2.5; T8 -5.5,-2.5; T9 -4.5,-2.5; T10 -3.5,-2.5; T11 -2.5,-2.5; T12 -1.5,-2.5; T13 -0.5,-2.5; T14 0.5,-2.5; T15 1.5,-2.5; T16 2.5,-2.5; T17 3.5,-2.5; T18 4.5,-2.5; T19 5.5,-2.5; T20 6.5,-2.5; T21 7.5,-2.5; T22 8.5,-2.5; T23 9.5,-2.5; T24 10.5,-2.5; T25 11.5,-2.5; T26 12.5,-2.5; U1 -12.5,-3.5; U2 -11.5,-3.5; U3 -10.5,-3.5; U4 -9.5,-3.5; U5 -8.5,-3.5; U6 -7.5,-3.5; U7 -6.5,-3.5; U8 -5.5,-3.5; U9 -4.5,-3.5; U10 -3.5,-3.5; U11 -2.5,-3.5; U12 -1.5,-3.5; U13 -0.5,-3.5; U14 0.5,-3.5; U15 1.5,-3.5; U16 2.5,-3.5; U17 3.5,-3.5; U18 4.5,-3.5; U19 5.5,-3.5; U20 6.5,-3.5; U21 7.5,-3.5; U22 8.5,-3.5; U23 9.5,-3.5; U24 10.5,-3.5; U25 11.5,-3.5; U26 12.5,-3.5; V1 -12.5,-4.5; V2 -11.5,-4.5; V3 -10.5,-4.5; V4 -9.5,-4.5; V5 -8.5,-4.5; V6 -7.5,-4.5; V7 -6.5,-4.5; V8 -5.5,-4.5; V9 -4.5,-4.5; V10 -3.5,-4.5; V11 -2.5,-4.5; V12 -1.5,-4.5; V13 -0.5,-4.5; V14 0.5,-4.5; V15 1.5,-4.5; V16 2.5,-4.5; V17 3.5,-4.5; V18 4.5,-4.5; V19 5.5,-4.5; V20 6.5,-4.5; V21 7.5,-4.5; V22 8.5,-4.5; V23 9.5,-4.5; V24 10.5,-4.5; V25 11.5,-4.5; V26 12.5,-4.5; W1 -12.5,-5.5; W2 -11.5,-5.5; W3 -10.5,-5.5; W4 -9.5,-5.5; W5 -8.5,-5.5; W6 -7.5,-5.5; W7 -6.5,-5.5; W8 -5.5,-5.5; W9 -4.5,-5.5; W10 -3.5,-5.5; W11 -2.5,-5.5; W12 -1.5,-5.5; W13 -0.5,-5.5; W14 0.5,-5.5; W15 1.5,-5.5; W16 2.5,-5.5; W17 3.5,-5.5; W18 4.5,-5.5; W19 5.5,-5.5; W20 6.5,-5.5; W21 7.5,-5.5; W22 8.5,-5.5; W23 9.5,-5.5; W24 10.5,-5.5; W25 11.5,-5.5; W26 12.5,-5.5; Y1 -12.5,-6.5; Y2 -11.5,-6.5; Y3 -10.5,-6.5; Y4 -9.5,-6.5; Y5 -8.5,-6.5; Y6 -7.5,-6.5; Y7 -6.5,-6.5; Y8 -5.5,-6.5; Y9 -4.5,-6.5; Y10 -3.5,-6.5; Y11 -2.5,-6.5; Y12 -1.5,-6.5; Y13 -0.5,-6.5; Y14 0.5,-6.5; Y15 1.5,-6.5; Y16 2.5,-6.5; Y17 3.5,-6.5; Y18 4.5,-6.5; Y19 5.5,-6.5; Y20 6.5,-6.5; Y21 7.5,-6.5; Y22 8.5,-6.5; Y23 9.5,-6.5; Y24 10.5,-6.5; Y25 11.5,-6.5; Y26 12.5,-6.5